# Altium footprint library 1206_Resettable_Fuse.PcbLib: 1 footprints
Each footprint in its own frame and in the unit in brackets; x right, y up, seen from the top. Pads: shape width x height; smd on the part's side, far side on the other; paste and mask are expansions set on the pad; w line width, h text height; cw(c..) or ccw(c..) is an arc to the next point about the centre after c.
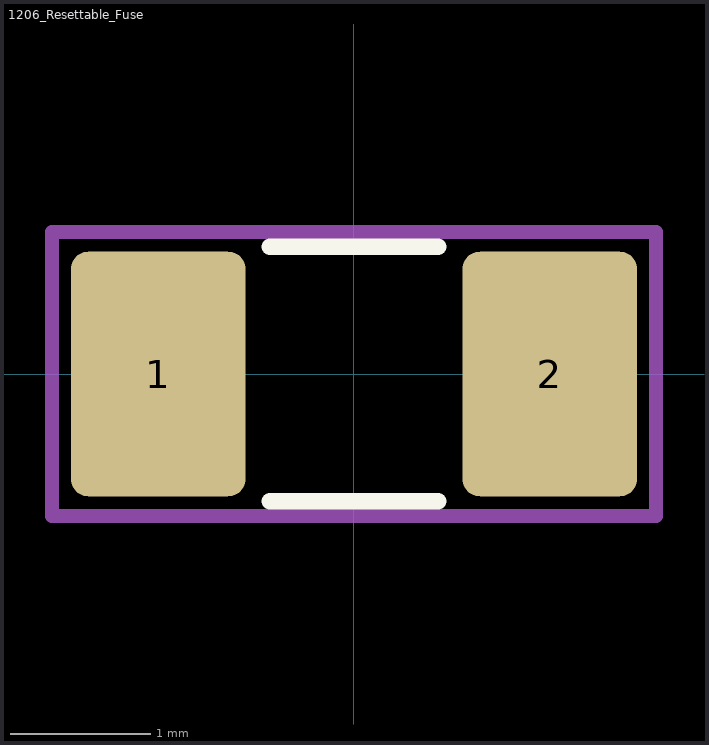
[diagram p0: the footprint, top view; thin cyan lines are the x and y axes]

## 1206_Resettable_Fuse [mm]
pads (2):
  rrect20% 1.25x1.75 smd: 1(-1.4,0) 2(1.4,0)
Top Overlay:
  lines w0.12: -0.602,-0.91 0.602,-0.91 ; -0.602,0.91 0.602,0.91
Mechanical 1:
  lines w0.1: -2.159,-1.016 2.159,-1.016 2.159,1.016 -2.159,1.016 -2.159,-1.016
  text ".Designator" at -0.254,0.188 h1
Top Courtyard:
  text "+" at -0.333,-0.5 h1
3D body "0ZCJ0035FF2G.step": height 0.51, standoff 0.01, extent -1.7,-0.85 1.7,0.85